# Altium schematic symbol library TE0712.SchLib: 1 symbol
Pins are listed as number, name and electrical type; pins without a type are passive.

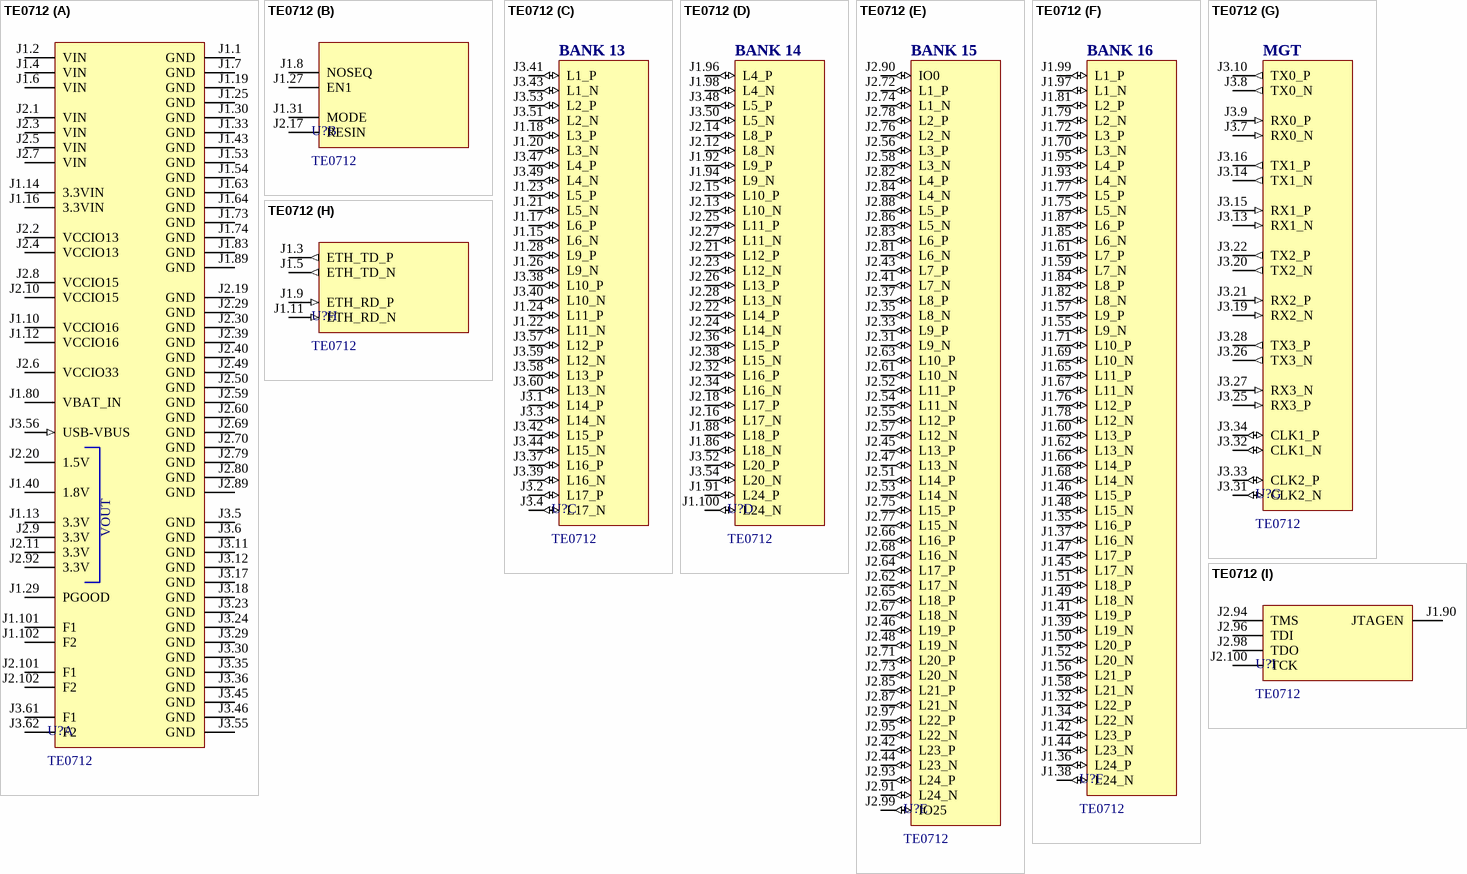
[diagram p0: symbol TE0712]

## TE0712
designator U?
footprint TE0712 (Micromodule Artix-7 XC7A100T-xx 4x5cm)
part A pins: J1.1 GND (power), J1.2 VIN (power), J1.4 VIN (power), J1.6 VIN (power), J1.7 GND (power), J1.10 VCCIO16 (power), J1.12 VCCIO16 (power), J1.13 3.3V (power), J1.14 3.3VIN (power), J1.16 3.3VIN (power), J1.19 GND (power), J1.25 GND (power), J1.29 PGOOD, J1.30 GND (power), J1.33 GND (power), J1.40 1.8V (power), J1.43 GND (power), J1.53 GND (power), J1.54 GND (power), J1.63 GND (power), J1.64 GND (power), J1.73 GND (power), J1.74 GND (power), J1.80 VBAT_IN (power), J1.83 GND (power), J1.89 GND (power), J1.101 F1, J1.102 F2, J2.1 VIN (power), J2.2 VCCIO13 (power), J2.3 VIN (power), J2.4 VCCIO13 (power), J2.5 VIN (power), J2.6 VCCIO33 (power), J2.7 VIN (power), J2.8 VCCIO15 (power), J2.9 3.3V (power), J2.10 VCCIO15 (power), J2.11 3.3V (power), J2.19 GND (power), J2.20 1.5V (power), J2.29 GND (power), J2.30 GND (power), J2.39 GND (power), J2.40 GND (power), J2.49 GND (power), J2.50 GND (power), J2.59 GND (power), J2.60 GND (power), J2.69 GND (power), J2.70 GND (power), J2.79 GND (power), J2.80 GND (power), J2.89 GND (power), J2.92 3.3V (power), J2.101 F1, J2.102 F2, J3.5 GND (power), J3.6 GND (power), J3.11 GND (power), J3.12 GND (power), J3.17 GND (power), J3.18 GND (power), J3.23 GND (power), J3.24 GND (power), J3.29 GND (power), J3.30 GND (power), J3.35 GND (power), J3.36 GND (power), J3.45 GND (power), J3.46 GND (power), J3.55 GND (power), J3.56 USB-VBUS (in), J3.61 F1, J3.62 F2
part B pins: J1.8 NOSEQ, J1.27 EN1, J1.31 MODE, J2.17 RESIN
part C pins: J1.15 L6_N (io), J1.17 L6_P (io), J1.18 L3_P (io), J1.20 L3_N (io), J1.21 L5_N (io), J1.22 L11_N (io), J1.23 L5_P (io), J1.24 L11_P (io), J1.26 L9_N (io), J1.28 L9_P (io), J3.1 L14_P (io), J3.2 L17_P (io), J3.3 L14_N (io), J3.4 L17_N (io), J3.37 L16_P (io), J3.38 L10_P (io), J3.39 L16_N (io), J3.40 L10_N (io), J3.41 L1_P (io), J3.42 L15_P (io), J3.43 L1_N (io), J3.44 L15_N (io), J3.47 L4_P (io), J3.49 L4_N (io), J3.51 L2_N (io), J3.53 L2_P (io), J3.57 L12_P (io), J3.58 L13_P (io), J3.59 L12_N (io), J3.60 L13_N (io)
part D pins: J1.86 L18_N (io), J1.88 L18_P (io), J1.91 L24_P (io), J1.92 L9_P (io), J1.94 L9_N (io), J1.96 L4_P (io), J1.98 L4_N (io), J1.100 L24_N (io), J2.12 L8_N (io), J2.13 L10_N (io), J2.14 L8_P (io), J2.15 L10_P (io), J2.16 L17_N (io), J2.18 L17_P (io), J2.21 L12_P (io), J2.22 L14_P (io), J2.23 L12_N (io), J2.24 L14_N (io), J2.25 L11_P (io), J2.26 L13_P (io), J2.27 L11_N (io), J2.28 L13_N (io), J2.32 L16_P (io), J2.34 L16_N (io), J2.36 L15_P (io), J2.38 L15_N (io), J3.48 L5_P (io), J3.50 L5_N (io), J3.52 L20_P (io), J3.54 L20_N (io)
part E pins: J2.31 L9_N (io), J2.33 L9_P (io), J2.35 L8_N (io), J2.37 L8_P (io), J2.41 L7_N (io), J2.42 L23_P (io), J2.43 L7_P (io), J2.44 L23_N (io), J2.45 L13_P (io), J2.46 L19_P (io), J2.47 L13_N (io), J2.48 L19_N (io), J2.51 L14_P (io), J2.52 L11_P (io), J2.53 L14_N (io), J2.54 L11_N (io), J2.55 L12_P (io), J2.56 L3_P (io), J2.57 L12_N (io), J2.58 L3_N (io), J2.61 L10_N (io), J2.62 L17_N (io), J2.63 L10_P (io), J2.64 L17_P (io), J2.65 L18_P (io), J2.66 L16_P (io), J2.67 L18_N (io), J2.68 L16_N (io), J2.71 L20_P (io), J2.72 L1_P (io), J2.73 L20_N (io), J2.74 L1_N (io), J2.75 L15_P (io), J2.76 L2_N (io), J2.77 L15_N (io), J2.78 L2_P (io), J2.81 L6_N (io), J2.82 L4_P (io), J2.83 L6_P (io), J2.84 L4_N (io), J2.85 L21_P (io), J2.86 L5_N (io), J2.87 L21_N (io), J2.88 L5_P (io), J2.90 IO0 (io), J2.91 L24_N (io), J2.93 L24_P (io), J2.95 L22_N (io), J2.97 L22_P (io), J2.99 IO25 (io)
part F pins: J1.32 L22_P (io), J1.34 L22_N (io), J1.35 L16_P (io), J1.36 L24_P (io), J1.37 L16_N (io), J1.38 L24_N (io), J1.39 L19_N (io), J1.41 L19_P (io), J1.42 L23_P (io), J1.44 L23_N (io), J1.45 L17_N (io), J1.46 L15_P (io), J1.47 L17_P (io), J1.48 L15_N (io), J1.49 L18_N (io), J1.50 L20_P (io), J1.51 L18_P (io), J1.52 L20_N (io), J1.55 L9_N (io), J1.56 L21_P (io), J1.57 L9_P (io), J1.58 L21_N (io), J1.59 L7_N (io), J1.60 L13_P (io), J1.61 L7_P (io), J1.62 L13_N (io), J1.65 L11_P (io), J1.66 L14_P (io), J1.67 L11_N (io), J1.68 L14_N (io), J1.69 L10_N (io), J1.70 L3_N (io), J1.71 L10_P (io), J1.72 L3_P (io), J1.75 L5_N (io), J1.76 L12_P (io), J1.77 L5_P (io), J1.78 L12_N (io), J1.79 L2_N (io), J1.81 L2_P (io), J1.82 L8_N (io), J1.84 L8_P (io), J1.85 L6_N (io), J1.87 L6_P (io), J1.93 L4_N (io), J1.95 L4_P (io), J1.97 L1_N (io), J1.99 L1_P (io)
part G pins: J3.7 RX0_N (in), J3.8 TX0_N (out), J3.9 RX0_P (in), J3.10 TX0_P (out), J3.13 RX1_N (in), J3.14 TX1_N (out), J3.15 RX1_P (in), J3.16 TX1_P (out), J3.19 RX2_N (in), J3.20 TX2_N (out), J3.21 RX2_P (in), J3.22 TX2_P (out), J3.25 RX3_P (in), J3.26 TX3_N (out), J3.27 RX3_N (in), J3.28 TX3_P (out), J3.31 CLK2_N (io), J3.32 CLK1_N (io), J3.33 CLK2_P (io), J3.34 CLK1_P (io)
part H pins: J1.3 ETH_TD_P (out), J1.5 ETH_TD_N (out), J1.9 ETH_RD_P (in), J1.11 ETH_RD_N (in)
part I pins: J1.90 JTAGEN, J2.94 TMS, J2.96 TDI, J2.98 TDO, J2.100 TCK
part A text: VOUT
part C text: BANK 13
part D text: BANK 14
part E text: BANK 15
part F text: BANK 16
part G text: MGT